# Altium footprint library holes.PcbLib: 3 footprints
Each footprint in its own frame and in the unit in brackets; x right, y up, seen from the top. Pads: shape width x height; smd on the part's side, far side on the other; paste and mask are expansions set on the pad; w line width, h text height; cw(c..) or ccw(c..) is an arc to the next point about the centre after c.
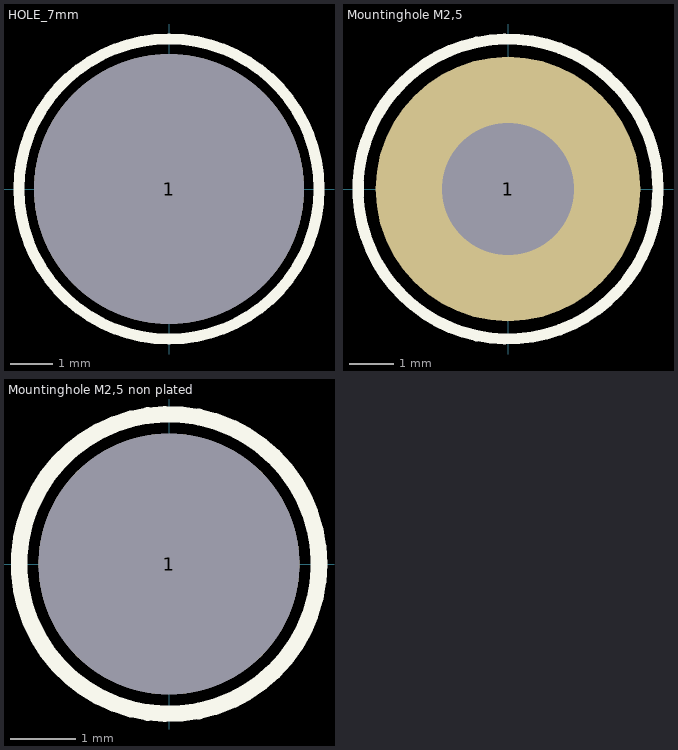
[diagram p0: the footprints below, top view; thin cyan lines are the x and y axes]

## HOLE_7mm [mm]
pads (1):
  round 6.3 hole 6.3 unplated: 1(0,0)
Top Overlay:
  circle w0.254: c0,0 r3.5

## Mountinghole M2,5 [mm]
pads (1):
  round 6 hole 3: 1(0,0)
Top Overlay:
  circle w0.254: c0,0 r3.401

## Mountinghole M2,5 non plated [mm]
pads (1):
  round 4 hole 4 unplated: 1(0,0)
Top Overlay:
  circle w0.254: c0,0 r2.3